# EAGLE library part METRO_MINI (library paper_tape)
Adafruit Metro Mini Arduino. ATmega328 + FTDI USB Serial
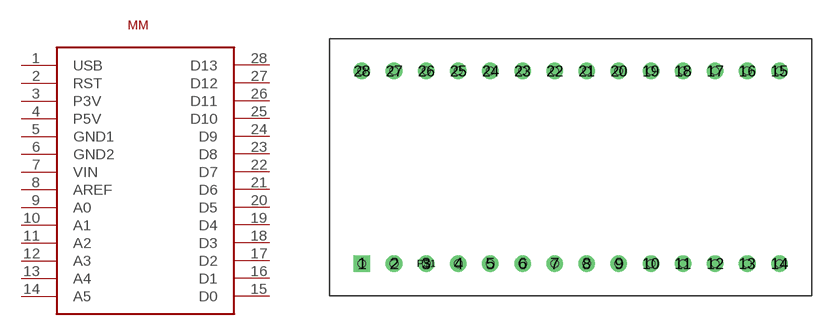
[diagram p2: symbol with the pads of DIP28; footprint DIP28]

Designator prefix MM

## METRO_MINI  [DIP28]
1  USB
2  RST
3  P3V
4  P5V
5  GND1
6  GND2
7  VIN
8  AREF
9  A0
10  A1
11  A2
12  A3
13  A4
14  A5
15  D0
16  D1
17  D2
18  D3
19  D4
20  D5
21  D6
22  D7
23  D8
24  D9
25  D10
26  D11
27  D12
28  D13

## Footprint DIP28 (pad centres in mm)
drill 0.8 square: 1 -17.78,-7.62
drill 0.8: 2 -15.24,-7.62; 3 -12.7,-7.62; 4 -10.16,-7.62; 5 -7.62,-7.62; 6 -5.08,-7.62; 7 -2.54,-7.62; 8 0,-7.62; 9 2.54,-7.62; 10 5.08,-7.62; 11 7.62,-7.62; 12 10.16,-7.62; 13 12.7,-7.62; 14 15.24,-7.62; 15 15.24,7.62; 16 12.7,7.62; 17 10.16,7.62; 18 7.62,7.62; 19 5.08,7.62; 20 2.54,7.62; 21 0,7.62; 22 -2.54,7.62; 23 -5.08,7.62; 24 -7.62,7.62; 25 -10.16,7.62; 26 -12.7,7.62; 27 -15.24,7.62; 28 -17.78,7.62; P$1 -12.7,-7.62
hole 0.6 at -17.78,-7.62
hole 0.6 at -15.24,-7.62
hole 0.6 at -12.7,-7.62
hole 0.6 at -10.16,-7.62
hole 0.6 at -7.62,-7.62
hole 0.6 at -5.08,-7.62
hole 0.6 at -2.54,-7.62
hole 0.6 at 0,-7.62
hole 0.6 at 2.54,-7.62
hole 0.6 at 5.08,-7.62
hole 0.6 at 7.62,-7.62
hole 0.6 at 10.16,-7.62
hole 0.6 at 12.7,-7.62
hole 0.6 at 15.24,-7.62
hole 0.6 at 15.24,7.62
hole 0.6 at 12.7,7.62
hole 0.6 at 10.16,7.62
hole 0.6 at 7.62,7.62
hole 0.6 at 5.08,7.62
hole 0.6 at 2.54,7.62
hole 0.6 at 0,7.62
hole 0.6 at -2.54,7.62
hole 0.6 at -5.08,7.62
hole 0.6 at -7.62,7.62
hole 0.6 at -10.16,7.62
hole 0.6 at -12.7,7.62
hole 0.6 at -15.24,7.62
hole 0.6 at -17.78,7.62